# EAGLE library part AD578 (library 1A-meinLib)
Very Fast, complete 12-Bit A/D Converter, 3us, +-30ppm°C, +-15V, 5V, 8mA, 35mA, 40mA
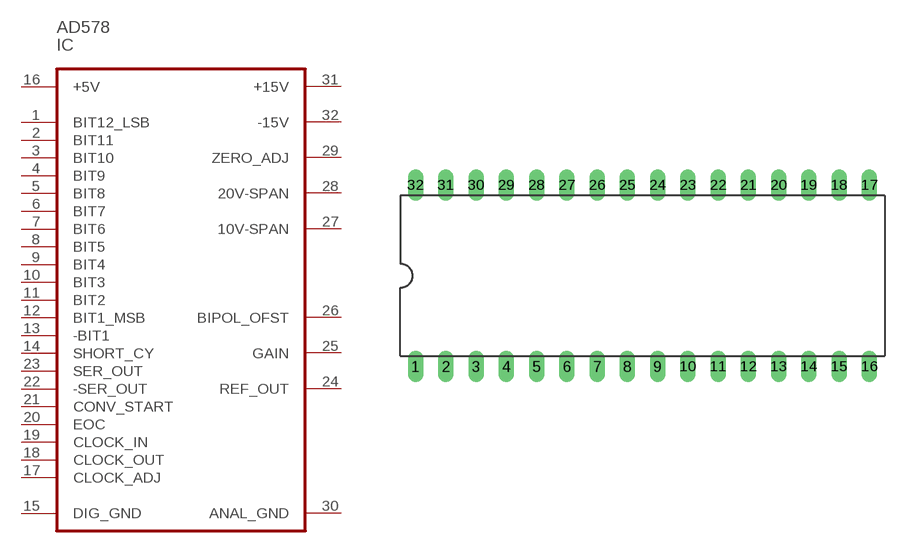
[diagram p289: symbol with the pads of DIL32; footprint DIL32]

Designator prefix IC

## AD578  [DIL32]
1  BIT12_LSB  in
2  BIT11  in
3  BIT10  in
4  BIT9  in
5  BIT8  in
6  BIT7  in
7  BIT6  in
8  BIT5  in
9  BIT4  in
10  BIT3  in
11  BIT2  in
12  BIT1_MSB  in
13  -BIT1  in
14  SHORT_CY  in
15  DIG_GND  pas
16  +5V  pas
17  CLOCK_ADJ  pas
18  CLOCK_OUT  out
19  CLOCK_IN  in
20  EOC  out
21  CONV_START  in
22  -SER_OUT  out
23  SER_OUT  out
24  REF_OUT  out
25  GAIN  pas
26  BIPOL_OFST  pas
27  10V-SPAN  pas
28  20V-SPAN  pas
29  ZERO_ADJ  pas
30  ANAL_GND  pas
31  +15V  pas
32  -15V  pas

## Footprint DIL32 (pad centres in mm)
Dual In Line Package
drill 0.813 long: 1 -19.05,-7.62; 2 -16.51,-7.62; 3 -13.97,-7.62; 4 -11.43,-7.62; 5 -8.89,-7.62; 6 -6.35,-7.62; 7 -3.81,-7.62; 8 -1.27,-7.62; 9 1.27,-7.62; 10 3.81,-7.62; 11 6.35,-7.62; 12 8.89,-7.62; 13 11.43,-7.62; 14 13.97,-7.62; 15 16.51,-7.62; 16 19.05,-7.62; 17 19.05,7.62; 18 16.51,7.62; 19 13.97,7.62; 20 11.43,7.62; 21 8.89,7.62; 22 6.35,7.62; 23 3.81,7.62; 24 1.27,7.62; 25 -1.27,7.62; 26 -3.81,7.62; 27 -6.35,7.62; 28 -8.89,7.62; 29 -11.43,7.62; 30 -13.97,7.62; 31 -16.51,7.62; 32 -19.05,7.62